# EAGLE library part AKL073-12 (library raicon AKL073)
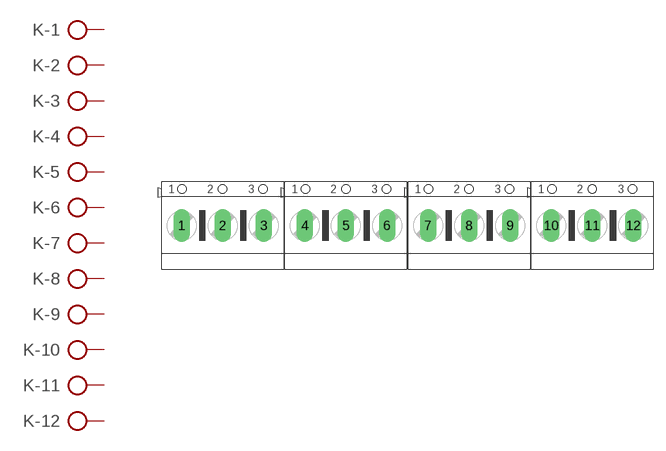
[diagram p0: symbol with the pads of 508-12; footprint 508-12]

Designator prefix K; gates -1=KL -2=KL -3=KL -4=KL -5=KL -6=KL -7=KL -8=KL -9=KL -10=KL -11=KL -12=KL

## AKL073-12  [508-12]
1  -1:KL  pas
2  -2:KL  pas
3  -3:KL  pas
4  -4:KL  pas
5  -5:KL  pas
6  -6:KL  pas
7  -7:KL  pas
8  -8:KL  pas
9  -9:KL  pas
10  -10:KL  pas
11  -11:KL  pas
12  -12:KL  pas

## Footprint 508-12 (pad centres in mm)
drill 1.35 long: 1 2.54,5.5; 2 7.62,5.5; 3 12.7,5.5; 4 17.781,5.501; 5 22.86,5.501; 6 27.94,5.501; 7 33.021,5.501; 8 38.1,5.501; 9 43.18,5.501; 10 48.261,5.501; 11 53.34,5.501; 12 58.42,5.501